# Altium schematic symbol library lib.SchLib: 480 symbols (part 4 of 6)
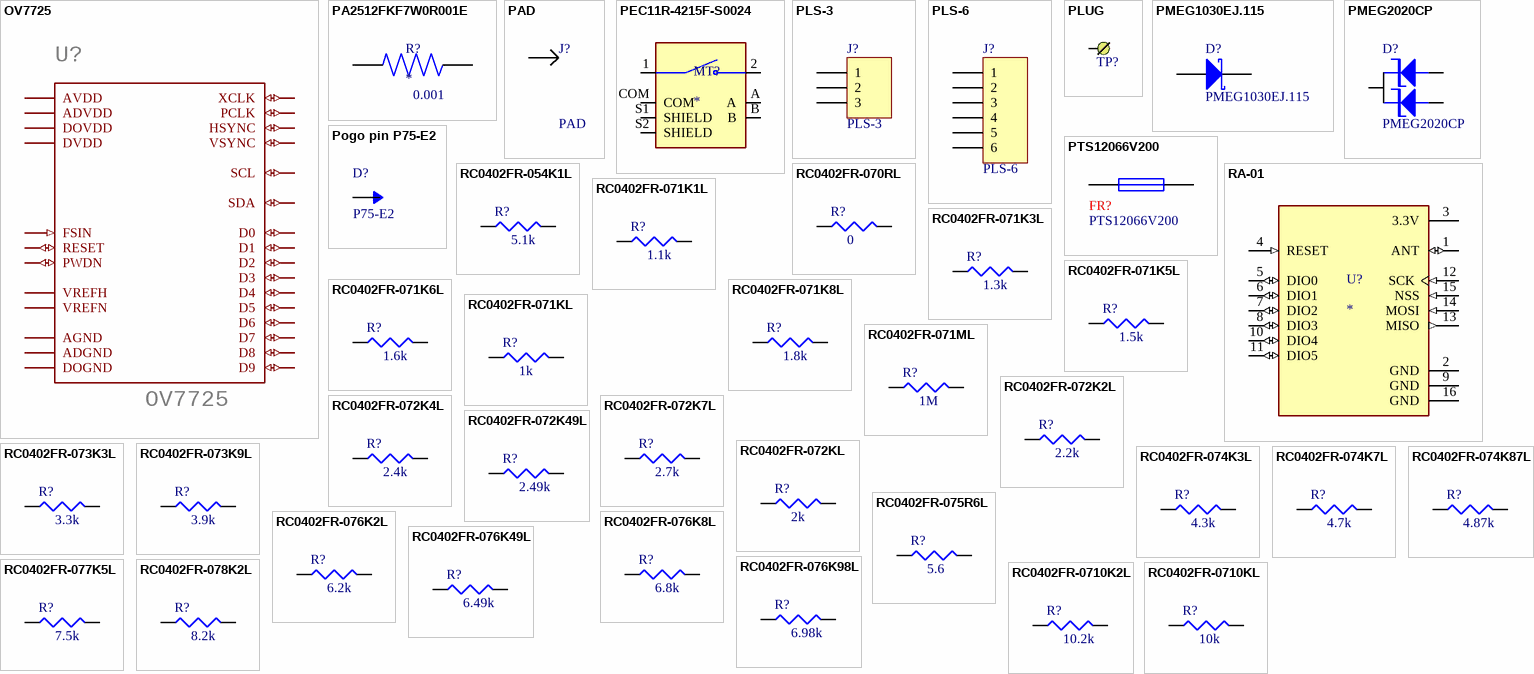
[diagram p23: symbols OV7725 to RC0402FR-0710KL]

## RC0402FR-074K7L
designator R?  value 4.7k  (hidden comment: RC0402FR-074K7L)
0.062Вт 0402 4.7 кОм, 1%, Чип резистор (SMD); MF: Yageo or NXP; ChipDip_Link: https://www.chipdip.ru/product0/9000189640; HelpURL: https://www.chipdip.ru/product0/9000189640; Package: RC0402; Type: SMD; MP: RC0402FR-074K7L; SnapEDA_Link: https://www.snapeda.com/parts/CRGCQ0402F10K/TE%20Connectivity/view-part/3186991/?ref=search&t=0402%2010k
footprint RESC1005X40N
pins: 1, 2

## RC0402FR-074K87L
designator R?  value 4.87k  (hidden comment: RC0402FR-074K87L)
0.062Вт 0402 4.87 кОм, 1%, Чип резистор (SMD); MF: Yageo or NXP; ChipDip_Link: https://www.chipdip.ru/product0/9000189640; HelpURL: https://www.chipdip.ru/product0/9000189640; Package: RC0402; Type: SMD; MP: RC0402FR-074K87L; SnapEDA_Link: https://www.snapeda.com/parts/CRGCQ0402F10K/TE%20Connectivity/view-part/3186991/?ref=search&t=0402%2010k
footprint RESC1005X40N
pins: 1, 2

## RC0402FR-075R6L
designator R?  value 5.6  (hidden comment: RC0402FR-075R6L)
0.062Вт 0402 5.6 Ом, 1%, Чип резистор (SMD); MF: Yageo or NXP; ChipDip_Link: https://www.chipdip.ru/product0/9000189640; HelpURL: https://www.chipdip.ru/product0/9000189640; Package: RC0402; Type: SMD; MP: RC0402FR-075R6L; SnapEDA_Link: https://www.snapeda.com/parts/CRGCQ0402F10K/TE%20Connectivity/view-part/3186991/?ref=search&t=0402%2010k
footprint RESC1005X40N
pins: 1, 2

## RC0402FR-076K2L
designator R?  value 6.2k  (hidden comment: RC0402FR-076K2L)
0.062Вт 0402 6.2 кОм, 1%, Чип резистор (SMD); MF: Yageo or NXP; ChipDip_Link: https://www.chipdip.ru/product0/9000189640; HelpURL: https://www.chipdip.ru/product0/9000189640; Package: RC0402; Type: SMD; MP: RC0402FR-076K2L; SnapEDA_Link: https://www.snapeda.com/parts/CRGCQ0402F10K/TE%20Connectivity/view-part/3186991/?ref=search&t=0402%2010k
footprint RESC1005X40N
pins: 1, 2

## RC0402FR-076K8L
designator R?  value 6.8k  (hidden comment: RC0402FR-076K8L)
0.062Вт 0402 6.8 кОм, 1%, Чип резистор (SMD); MF: Yageo or NXP; ChipDip_Link: https://www.chipdip.ru/product0/9000189640; HelpURL: https://www.chipdip.ru/product0/9000189640; Package: RC0402; Type: SMD; MP: RC0402FR-076K8L; SnapEDA_Link: https://www.snapeda.com/parts/CRGCQ0402F10K/TE%20Connectivity/view-part/3186991/?ref=search&t=0402%2010k
footprint RESC1005X40N
pins: 1, 2

## RC0402FR-076K49L
designator R?  value 6.49k  (hidden comment: RC0402FR-076K49L)
0.062Вт 0402 6.49 кОм, 1%, Чип резистор (SMD); MF: Yageo or NXP; ChipDip_Link: https://www.chipdip.ru/product0/9000189640; HelpURL: https://www.chipdip.ru/product0/9000189640; Package: RC0402; Type: SMD; MP: RC0402FR-076K49L; SnapEDA_Link: https://www.snapeda.com/parts/CRGCQ0402F10K/TE%20Connectivity/view-part/3186991/?ref=search&t=0402%2010k
footprint RESC1005X40N
pins: 1, 2

## RC0402FR-076K98L
designator R?  value 6.98k  (hidden comment: RC0402FR-076K98L)
0.062Вт 0402 6.98 кОм, 1%, Чип резистор (SMD); MF: Yageo or NXP; ChipDip_Link: https://www.chipdip.ru/product0/9000189640; HelpURL: https://nl.mouser.com/datasheet/2/447/PYu_RC_Group_51_RoHS_L_11-1984063.pdf; Package: RC0402; Type: SMD; MP: RC0402FR-076K98L; SnapEDA_Link: https://www.snapeda.com/parts/CRGCQ0402F10K/TE%20Connectivity/view-part/3186991/?ref=search&t=0402%2010k
footprint RESC1005X40N
pins: 1, 2

## RC0402FR-077K5L
designator R?  value 7.5k  (hidden comment: RC0402FR-077K5L)
0.062Вт 0402 7,5 кОм, 1%, Чип резистор (SMD); MF: Yageo or NXP; ChipDip_Link: https://www.chipdip.ru/product0/9000189640; HelpURL: https://www.chipdip.ru/product0/9000189640; Package: RC0402; Type: SMD; MP: RC0402FR-077K5L; SnapEDA_Link: https://www.snapeda.com/parts/CRGCQ0402F10K/TE%20Connectivity/view-part/3186991/?ref=search&t=0402%2010k
footprint RESC1005X40N
pins: 1, 2

## RC0402FR-078K2L
designator R?  value 8.2k  (hidden comment: RC0402FR-078K2L)
0.062Вт 0402 8.2 кОм, 1%, Чип резистор (SMD); MF: Yageo or NXP; ChipDip_Link: https://www.chipdip.ru/product0/9000189640; HelpURL: https://www.chipdip.ru/product0/9000189640; Package: RC0402; Type: SMD; MP: RC0402FR-078K2L; SnapEDA_Link: https://www.snapeda.com/parts/CRGCQ0402F10K/TE%20Connectivity/view-part/3186991/?ref=search&t=0402%2010k
footprint RESC1005X40N
pins: 1, 2

## RC0402FR-0710K2L
designator R?  value 10.2k  (hidden comment: RC0402FR-0710K2L)
0.062Вт 0402 10.2 кОм, 1%, Чип резистор (SMD); MF: Yageo or NXP; ChipDip_Link: https://www.chipdip.ru/product0/9000189640; HelpURL: https://nl.mouser.com/datasheet/2/447/PYu_RC_Group_51_RoHS_L_11-1984063.pdf; Package: RC0402; Type: SMD; MP: RC0402FR-0710K2L; SnapEDA_Link: https://www.snapeda.com/parts/CRGCQ0402F10K/TE%20Connectivity/view-part/3186991/?ref=search&t=0402%2010k
footprint RESC1005X40N
pins: 1, 2

## RC0402FR-0710KL
designator R?  value 10k  (hidden comment: RC0402FR-0710KL)
0.062Вт 0402 10 кОм, 1%, Чип резистор (SMD); MF: Yageo or NXP; ChipDip_Link: https://www.chipdip.ru/product0/9000189640; HelpURL: https://www.chipdip.ru/product0/9000189640; Package: RC0402; Type: SMD; MP: RC0402FR-0710KL; SnapEDA_Link: https://www.snapeda.com/parts/CRGCQ0402F10K/TE%20Connectivity/view-part/3186991/?ref=search&t=0402%2010k
footprint RESC1005X40N
pins: 1, 2

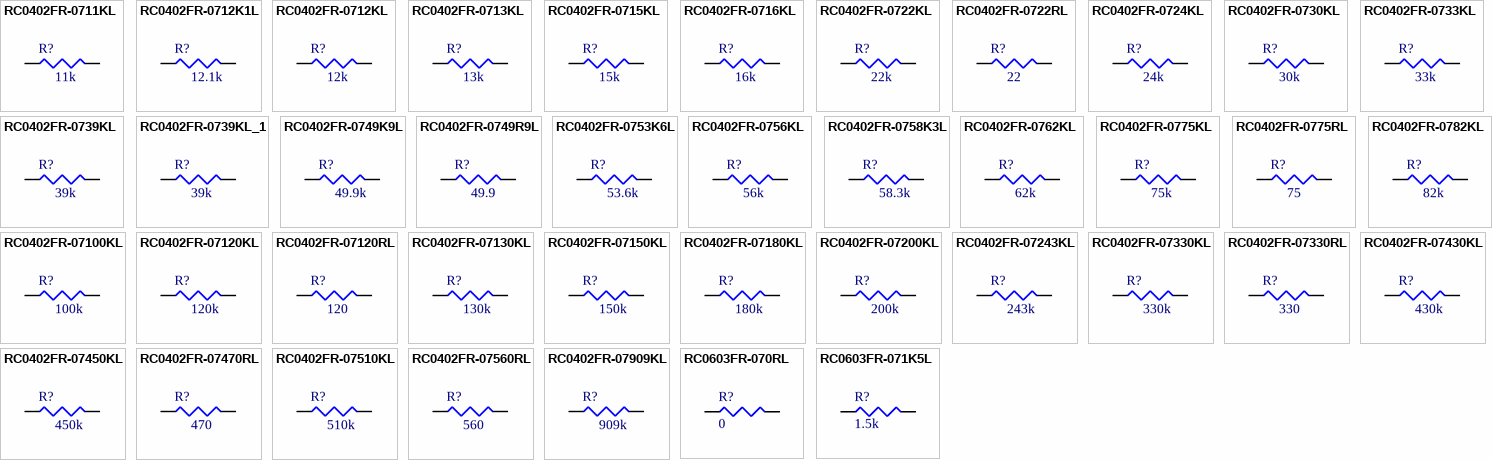
[diagram p11: symbols RC0402FR-0711KL to RC0603FR-071K5L]

## RC0402FR-0711KL
designator R?  value 11k  (hidden comment: RC0402FR-0711KL)
0.062Вт 0402 11 кОм, 1%, Чип резистор (SMD); MF: Yageo or NXP; ChipDip_Link: https://www.chipdip.ru/product0/9000189640; HelpURL: https://www.chipdip.ru/product0/9000189640; Package: RC0402; Type: SMD; MP: RC0402FR-0711KL; SnapEDA_Link: https://www.snapeda.com/parts/CRGCQ0402F10K/TE%20Connectivity/view-part/3186991/?ref=search&t=0402%2010k
footprint RESC1005X40N
pins: 1, 2

## RC0402FR-0712K1L
designator R?  value 12.1k  (hidden comment: RC0402FR-0712K1L)
0.062Вт 0402 12.1 кОм, 1%, Чип резистор (SMD); MF: Yageo or NXP; ChipDip_Link: https://www.chipdip.ru/product0/9000189640; HelpURL: https://nl.mouser.com/datasheet/2/447/PYu_RC_Group_51_RoHS_L_11-1984063.pdf; Package: RC0402; Type: SMD; MP: RC0402FR-0712K1L; SnapEDA_Link: https://www.snapeda.com/parts/CRGCQ0402F10K/TE%20Connectivity/view-part/3186991/?ref=search&t=0402%2010k
footprint RESC1005X40N
pins: 1, 2

## RC0402FR-0712KL
designator R?  value 12k  (hidden comment: RC0402FR-0712KL)
0.062Вт 0402 12 кОм, 1%, Чип резистор (SMD); MF: Yageo or NXP; ChipDip_Link: https://www.chipdip.ru/product0/9000189640; HelpURL: https://nl.mouser.com/datasheet/2/447/PYu_RC_Group_51_RoHS_L_11-1984063.pdf; Package: RC0402; Type: SMD; MP: RC0402FR-0712KL; SnapEDA_Link: https://www.snapeda.com/parts/CRGCQ0402F10K/TE%20Connectivity/view-part/3186991/?ref=search&t=0402%2010k
footprint RESC1005X40N
pins: 1, 2

## RC0402FR-0713KL
designator R?  value 13k  (hidden comment: RC0402FR-0713KL)
0.062Вт 0402 13 кОм, 1%, Чип резистор (SMD); MF: Yageo or NXP; ChipDip_Link: https://www.chipdip.ru/product0/9000189640; HelpURL: https://www.chipdip.ru/product0/9000189640; Package: RC0402; Type: SMD; MP: RC0402FR-0713KL; SnapEDA_Link: https://www.snapeda.com/parts/CRGCQ0402F10K/TE%20Connectivity/view-part/3186991/?ref=search&t=0402%2010k
footprint RESC1005X40N
pins: 1, 2

## RC0402FR-0715KL
designator R?  value 15k  (hidden comment: RC0402FR-0715KL)
0.062Вт 0402 15 кОм, 1%, Чип резистор (SMD); MF: Yageo or NXP; ChipDip_Link: https://www.chipdip.ru/product0/9000189640; HelpURL: https://www.chipdip.ru/product0/9000189640; Package: RC0402; Type: SMD; MP: RC0402FR-0715KL; SnapEDA_Link: https://www.snapeda.com/parts/CRGCQ0402F10K/TE%20Connectivity/view-part/3186991/?ref=search&t=0402%2010k
footprint RESC1005X40N
pins: 1, 2

## RC0402FR-0716KL
designator R?  value 16k  (hidden comment: RC0402FR-0716KL)
0.062Вт 0402 16 кОм, 1%, Чип резистор (SMD); MF: Yageo or NXP; ChipDip_Link: https://www.chipdip.ru/product0/9000189640; HelpURL: https://www.chipdip.ru/product0/9000189640; Package: RC0402; Type: SMD; MP: RC0402FR-0716KL; SnapEDA_Link: https://www.snapeda.com/parts/CRGCQ0402F10K/TE%20Connectivity/view-part/3186991/?ref=search&t=0402%2010k
footprint RESC1005X40N
pins: 1, 2

## RC0402FR-0722KL
designator R?  value 22k  (hidden comment: RC0402FR-0722KL)
0.062Вт 0402 22 кОм, 1%, Чип резистор (SMD); MF: Yageo or NXP; ChipDip_Link: https://www.chipdip.ru/product0/9000189640; HelpURL: https://www.chipdip.ru/product0/9000189640; Package: RC0402; Type: SMD; MP: RC0402FR-0722KL; SnapEDA_Link: https://www.snapeda.com/parts/CRGCQ0402F10K/TE%20Connectivity/view-part/3186991/?ref=search&t=0402%2010k
footprint RESC1005X40N
pins: 1, 2

## RC0402FR-0722RL
designator R?  value 22  (hidden comment: RC0402FR-0722RL)
0.062Вт 0402 22 Ом, 1%, Чип резистор (SMD); MF: Yageo or NXP; ChipDip_Link: https://www.chipdip.ru/product0/9000189640; HelpURL: https://www.chipdip.ru/product0/9000189640; Package: RC0402; Type: SMD; MP: RC0402FR-0722RL; SnapEDA_Link: https://www.snapeda.com/parts/CRGCQ0402F10K/TE%20Connectivity/view-part/3186991/?ref=search&t=0402%2010k
footprint RESC1005X40N
pins: 1, 2

## RC0402FR-0724KL
designator R?  value 24k  (hidden comment: RC0402FR-0724KL)
0.062Вт 0402 24 кОм, 1%, Чип резистор (SMD); MF: Yageo or NXP; ChipDip_Link: https://www.chipdip.ru/product0/9000189640; HelpURL: https://www.chipdip.ru/product0/9000189640; Package: RC0402; Type: SMD; MP: RC0402FR-0724KL; SnapEDA_Link: https://www.snapeda.com/parts/CRGCQ0402F10K/TE%20Connectivity/view-part/3186991/?ref=search&t=0402%2010k
footprint RESC1005X40N
pins: 1, 2

## RC0402FR-0730KL
designator R?  value 30k  (hidden comment: RC0402FR-0730KL)
0.062Вт 0402 30 кОм, 1%, Чип резистор (SMD); MF: Yageo or NXP; ChipDip_Link: https://www.chipdip.ru/product0/9000189640; HelpURL: https://www.chipdip.ru/product0/9000189640; Package: RC0402; Type: SMD; MP: RC0402FR-0730KL; SnapEDA_Link: https://www.snapeda.com/parts/CRGCQ0402F10K/TE%20Connectivity/view-part/3186991/?ref=search&t=0402%2010k
footprint RESC1005X40N
pins: 1, 2

## RC0402FR-0733KL
designator R?  value 33k  (hidden comment: RC0402FR-0733KL)
0.062Вт 0402 33 кОм, 1%, Чип резистор (SMD); MF: Yageo or NXP; ChipDip_Link: https://www.chipdip.ru/product0/9000189640; HelpURL: https://www.chipdip.ru/product0/9000189640; Package: RC0402; Type: SMD; MP: RC0402FR-0733KL; SnapEDA_Link: https://www.snapeda.com/parts/CRGCQ0402F10K/TE%20Connectivity/view-part/3186991/?ref=search&t=0402%2010k
footprint RESC1005X40N
pins: 1, 2

## RC0402FR-0739KL
designator R?  value 39k  (hidden comment: RC0402FR-0739KL)
0.062Вт 0402 39 кОм, 1%, Чип резистор (SMD); MF: Yageo or NXP; ChipDip_Link: https://www.chipdip.ru/product0/9000189640; HelpURL: https://www.chipdip.ru/product0/9000189640; Package: RC0402; Type: SMD; MP: RC0402FR-0739KL; SnapEDA_Link: https://www.snapeda.com/parts/CRGCQ0402F10K/TE%20Connectivity/view-part/3186991/?ref=search&t=0402%2010k
footprint RESC1005X40N
pins: 1, 2

## RC0402FR-0739KL_1
designator R?, comment value 39k  (hidden comment: RC0402FR-0739KL)
0.062Вт 0402 39 kОм, 1%, Чип резистор (SMD); MF: Yageo or NXP; ChipDip_Link: https://www.chipdip.ru/product0/9000189640; HelpURL: https://www.chipdip.ru/product0/9000189640; Package: RC0402; Type: SMD; MP: RC0402FR-0739KL; SnapEDA_Link: https://www.snapeda.com/parts/CRGCQ0402F10K/TE%20Connectivity/view-part/3186991/?ref=search&t=0402%2010k
footprint RESC1005X40N
pins: 1, 2

## RC0402FR-0749K9L
designator R?  value 49.9k  (hidden comment: RC0402FR-0749K9L)
0.062Вт 0402 49.9 кОм, 1%, Чип резистор (SMD); MF: Yageo or NXP; ChipDip_Link: https://www.chipdip.ru/product0/9000189640; HelpURL: https://nl.mouser.com/datasheet/2/447/PYu_RC_Group_51_RoHS_L_11-1984063.pdf; Package: RC0402; Type: SMD; MP: RC0402FR-0749K9L; SnapEDA_Link: https://www.snapeda.com/parts/CRGCQ0402F10K/TE%20Connectivity/view-part/3186991/?ref=search&t=0402%2010k
footprint RESC1005X40N
pins: 1, 2

## RC0402FR-0749R9L
designator R?  value 49.9  (hidden comment: RC0402FR-0749R9L)
0.062W 0402 49.9 Ohm, 1%,  (SMD); MF: Yageo or NXP; ChipDip_Link: https://www.chipdip.ru/product0/9000189640; HelpURL: https://nl.mouser.com/datasheet/2/447/PYu_RC_Group_51_RoHS_L_11-1984063.pdf; Package: RC0402; Type: SMD; MP: RC0402FR-0749R9L; SnapEDA_Link: https://www.snapeda.com/parts/CRGCQ0402F10K/TE%20Connectivity/view-part/3186991/?ref=search&t=0402%2010k
footprint RESC1005X40N
pins: 1, 2

## RC0402FR-0753K6L
designator R?  value 53.6k  (hidden comment: RC0402FR-0753K6L)
0.062Вт 0402 53.6 кОм, 1%, Чип резистор (SMD); MF: Yageo or NXP; ChipDip_Link: https://www.chipdip.ru/product0/9000189640; HelpURL: https://nl.mouser.com/datasheet/2/447/PYu_RC_Group_51_RoHS_L_11-1984063.pdf; Package: RC0402; Type: SMD; MP: RC0402FR-0753K6L; SnapEDA_Link: https://www.snapeda.com/parts/CRGCQ0402F10K/TE%20Connectivity/view-part/3186991/?ref=search&t=0402%2010k
footprint RESC1005X40N
pins: 1, 2

## RC0402FR-0756KL
designator R?  value 56k  (hidden comment: RC0402FR-0756KL)
0.062Вт 0402 56 кОм, 1%, Чип резистор (SMD); MF: Yageo or NXP; ChipDip_Link: https://www.chipdip.ru/product0/9000189640; HelpURL: https://www.chipdip.ru/product0/9000189640; Package: RC0402; Type: SMD; MP: RC0402FR-0756KL; SnapEDA_Link: https://www.snapeda.com/parts/CRGCQ0402F10K/TE%20Connectivity/view-part/3186991/?ref=search&t=0402%2010k
footprint RESC1005X40N
pins: 1, 2

## RC0402FR-0758K3L
designator R?  value 58.3k  (hidden comment: RC0402FR-0758K3L)
0.062W 0402 58.3 kOhm, 1%,  (SMD); MF: Yageo or NXP; ChipDip_Link: https://www.chipdip.ru/product0/9000189640; HelpURL: https://nl.mouser.com/datasheet/2/447/PYu_RC_Group_51_RoHS_L_11-1984063.pdf; Package: RC0402; Type: SMD; MP: RC0402FR-0758K3L; SnapEDA_Link: https://www.snapeda.com/parts/CRGCQ0402F10K/TE%20Connectivity/view-part/3186991/?ref=search&t=0402%2010k
footprint RESC1005X40N
pins: 1, 2

## RC0402FR-0762KL
designator R?  value 62k  (hidden comment: RC0402FR-0762KL)
0.062Вт 0402 62 кОм, 1%, Чип резистор (SMD); MF: Yageo or NXP; ChipDip_Link: https://www.chipdip.ru/product0/9000189640; HelpURL: https://www.chipdip.ru/product0/9000189640; Package: RC0402; Type: SMD; MP: RC0402FR-0762KL; SnapEDA_Link: https://www.snapeda.com/parts/CRGCQ0402F10K/TE%20Connectivity/view-part/3186991/?ref=search&t=0402%2010k
footprint RESC1005X40N
pins: 1, 2

## RC0402FR-0775KL
designator R?  value 75k  (hidden comment: RC0402FR-0775KL)
0.062Вт 0402 75 кОм, 1%, Чип резистор (SMD); MF: Yageo or NXP; ChipDip_Link: https://www.chipdip.ru/product0/9000189640; HelpURL: https://www.chipdip.ru/product0/9000189640; Package: RC0402; Type: SMD; MP: RC0402FR-0775KL; SnapEDA_Link: https://www.snapeda.com/parts/CRGCQ0402F10K/TE%20Connectivity/view-part/3186991/?ref=search&t=0402%2010k
footprint RESC1005X40N
pins: 1, 2

## RC0402FR-0775RL
designator R?  value 75  (hidden comment: RC0402FR-0775RL)
0.062Вт 0402 75 Ohm, 1%,  (SMD); MF: Yageo or NXP; ChipDip_Link: https://www.chipdip.ru/product0/9000189640; HelpURL: https://www.chipdip.ru/product0/9000189640; Package: RC0402; Type: SMD; MP: RC0402FR-0775RL; SnapEDA_Link: https://www.snapeda.com/parts/CRGCQ0402F10K/TE%20Connectivity/view-part/3186991/?ref=search&t=0402%2010k
footprint RESC1005X40N
pins: 1, 2

## RC0402FR-0782KL
designator R?  value 82k  (hidden comment: RC0402FR-0782KL)
0.062W 0402 82 kOhm, 1%,  (SMD); MF: Yageo or NXP; ChipDip_Link: https://www.chipdip.ru/product0/9000189640; HelpURL: https://www.chipdip.ru/product0/9000189640; Package: RC0402; Type: SMD; MP: RC0402FR-0782KL; SnapEDA_Link: https://www.snapeda.com/parts/CRGCQ0402F10K/TE%20Connectivity/view-part/3186991/?ref=search&t=0402%2010k
footprint RESC1005X40N
pins: 1, 2

## RC0402FR-07100KL
designator R?  value 100k  (hidden comment: RC0402FR-07100KL)
0.062Вт 0402 100 кОм, 1%, Чип резистор (SMD); MF: Yageo or NXP; ChipDip_Link: https://www.chipdip.ru/product0/9000189640; HelpURL: https://www.chipdip.ru/product0/9000189640; Package: RC0402; Type: SMD; MP: RC0402FR-07100KL; SnapEDA_Link: https://www.snapeda.com/parts/CRGCQ0402F10K/TE%20Connectivity/view-part/3186991/?ref=search&t=0402%2010k
footprint RESC1005X40N
pins: 1, 2

## RC0402FR-07120KL
designator R?  value 120k  (hidden comment: RC0402FR-07120KL)
0.062Вт 0402 120 кОм, 1%, Чип резистор (SMD); MF: Yageo or NXP; ChipDip_Link: https://www.chipdip.ru/product0/9000189640; HelpURL: https://www.chipdip.ru/product0/9000189640; Package: RC0402; Type: SMD; MP: RC0402FR-07120KL; SnapEDA_Link: https://www.snapeda.com/parts/CRGCQ0402F10K/TE%20Connectivity/view-part/3186991/?ref=search&t=0402%2010k
footprint RESC1005X40N
pins: 1, 2

## RC0402FR-07120RL
designator R?  value 120  (hidden comment: RC0402FR-07120RL)
0.062Вт 0402 120 Ом, 1%, Чип резистор (SMD); MF: Yageo or NXP; ChipDip_Link: https://www.chipdip.ru/product0/9000189640; HelpURL: https://www.chipdip.ru/product0/9000189640; Package: RC0402; Type: SMD; MP: RC0402FR-07120RL; SnapEDA_Link: https://www.snapeda.com/parts/CRGCQ0402F10K/TE%20Connectivity/view-part/3186991/?ref=search&t=0402%2010k
footprint RESC1005X40N
pins: 1, 2

## RC0402FR-07130KL
designator R?  value 130k  (hidden comment: RC0402FR-07130KL)
0.062Вт 0402 130 кОм, 1%, Чип резистор (SMD); MF: Yageo or NXP; ChipDip_Link: https://www.chipdip.ru/product0/9000189640; HelpURL: https://www.chipdip.ru/product0/9000189640; Package: RC0402; Type: SMD; MP: RC0402FR-07130KL; SnapEDA_Link: https://www.snapeda.com/parts/CRGCQ0402F10K/TE%20Connectivity/view-part/3186991/?ref=search&t=0402%2010k
footprint RESC1005X40N
pins: 1, 2

## RC0402FR-07150KL
designator R?  value 150k  (hidden comment: RC0402FR-07150KL)
0.062Вт 0402 150 кОм, 1%, Чип резистор (SMD); MF: Yageo or NXP; ChipDip_Link: https://www.chipdip.ru/product0/9000189640; HelpURL: https://www.chipdip.ru/product0/9000189640; Package: RC0402; Type: SMD; MP: RC0402FR-07150KL; SnapEDA_Link: https://www.snapeda.com/parts/CRGCQ0402F10K/TE%20Connectivity/view-part/3186991/?ref=search&t=0402%2010k
footprint RESC1005X40N
pins: 1, 2

## RC0402FR-07180KL
designator R?  value 180k  (hidden comment: RC0402FR-07180KL)
0.062Вт 0402 180 кОм, 1%, Чип резистор (SMD); MF: Yageo or NXP; ChipDip_Link: https://www.chipdip.ru/product0/9000189640; HelpURL: https://www.chipdip.ru/product0/9000189640; Package: RC0402; Type: SMD; MP: RC0402FR-07180KL; SnapEDA_Link: https://www.snapeda.com/parts/CRGCQ0402F10K/TE%20Connectivity/view-part/3186991/?ref=search&t=0402%2010k
footprint RESC1005X40N
pins: 1, 2

## RC0402FR-07200KL
designator R?  value 200k  (hidden comment: RC0402FR-07200KL)
0.062Вт 0402 200 кОм, 1%, Чип резистор (SMD); MF: Yageo or NXP; ChipDip_Link: https://www.chipdip.ru/product0/9000189640; HelpURL: https://www.chipdip.ru/product0/9000189640; Package: RC0402; Type: SMD; MP: RC0402FR-07200KL; SnapEDA_Link: https://www.snapeda.com/parts/CRGCQ0402F10K/TE%20Connectivity/view-part/3186991/?ref=search&t=0402%2010k
footprint RESC1005X40N
pins: 1, 2

## RC0402FR-07243KL
designator R?  value 243k  (hidden comment: RC0402FR-07243KL)
0.062Вт 0402 243 кОм, 1%, Чип резистор (SMD); MF: Yageo or NXP; ChipDip_Link: https://www.chipdip.ru/product0/9000189640; HelpURL: https://www.chipdip.ru/product0/9000189640; Package: RC0402; Type: SMD; MP: RC0402FR-07243KL; SnapEDA_Link: https://www.snapeda.com/parts/CRGCQ0402F10K/TE%20Connectivity/view-part/3186991/?ref=search&t=0402%2010k
footprint RESC1005X40N
pins: 1, 2

## RC0402FR-07330KL
designator R?  value 330k  (hidden comment: RC0402FR-07330KL)
0.062Вт 0402 330 кОм, 1%, Чип резистор (SMD); MF: Yageo or NXP; ChipDip_Link: https://www.chipdip.ru/product0/9000189640; HelpURL: https://www.chipdip.ru/product0/9000189640; Package: RC0402; Type: SMD; MP: RC0402FR-07330KL; SnapEDA_Link: https://www.snapeda.com/parts/CRGCQ0402F10K/TE%20Connectivity/view-part/3186991/?ref=search&t=0402%2010k
footprint RESC1005X40N
pins: 1, 2

## RC0402FR-07330RL
designator R?  value 330  (hidden comment: RC0402FR-07330RL)
0.062Вт 0402 330 Ом, 1%, Чип резистор (SMD); MF: Yageo or NXP; ChipDip_Link: https://www.chipdip.ru/product0/9000189640; HelpURL: https://www.chipdip.ru/product0/9000189640; Package: RC0402; Type: SMD; MP: RC0402FR-07330RL; SnapEDA_Link: https://www.snapeda.com/parts/CRGCQ0402F10K/TE%20Connectivity/view-part/3186991/?ref=search&t=0402%2010k
footprint RESC1005X40N
pins: 1, 2

## RC0402FR-07430KL
designator R?  value 430k  (hidden comment: RC0402FR-07430KL)
0.062Вт 0402 430 кОм, 1%, Чип резистор (SMD); MF: Yageo or NXP; ChipDip_Link: https://www.chipdip.ru/product0/9000189640; HelpURL: https://www.chipdip.ru/product0/9000189640; Package: RC0402; Type: SMD; MP: RC0402FR-07430KL; SnapEDA_Link: https://www.snapeda.com/parts/CRGCQ0402F10K/TE%20Connectivity/view-part/3186991/?ref=search&t=0402%2010k
footprint RESC1005X40N
pins: 1, 2

## RC0402FR-07450KL
designator R?  value 450k  (hidden comment: RC0402FR-07450KL)
0.062Вт 0402 450 кОм, 1%, Чип резистор (SMD); MF: Yageo or NXP; ChipDip_Link: https://www.chipdip.ru/product0/9000189640; HelpURL: https://www.chipdip.ru/product0/9000189640; Package: RC0402; Type: SMD; MP: RC0402FR-07450KL; SnapEDA_Link: https://www.snapeda.com/parts/CRGCQ0402F10K/TE%20Connectivity/view-part/3186991/?ref=search&t=0402%2010k
footprint RESC1005X40N
pins: 1, 2

## RC0402FR-07470RL
designator R?  value 470  (hidden comment: RC0402FR-07470RL)
0.062Вт 0402 470 Ом, 1%, Чип резистор (SMD); MF: Yageo or NXP; ChipDip_Link: https://www.chipdip.ru/product0/9000189640; HelpURL: https://www.chipdip.ru/product0/9000189640; Package: RC0402; Type: SMD; MP: RC0402FR-07470RL; SnapEDA_Link: https://www.snapeda.com/parts/CRGCQ0402F10K/TE%20Connectivity/view-part/3186991/?ref=search&t=0402%2010k
footprint RESC1005X40N
pins: 1, 2

## RC0402FR-07510KL
designator R?  value 510k  (hidden comment: RC0402FR-07510KL)
0.062Вт 0402 510 кОм, 1%, Чип резистор (SMD); MF: Yageo or NXP; ChipDip_Link: https://www.chipdip.ru/product0/9000189640; HelpURL: https://www.chipdip.ru/product0/9000189640; Package: RC0402; Type: SMD; MP: RC0402FR-07510KL; SnapEDA_Link: https://www.snapeda.com/parts/CRGCQ0402F10K/TE%20Connectivity/view-part/3186991/?ref=search&t=0402%2010k
footprint RESC1005X40N
pins: 1, 2

## RC0402FR-07560RL
designator R?  value 560  (hidden comment: RC0402FR-07560RL)
0.062Вт 0402 560 Ом, 1%, Чип резистор (SMD); MF: Yageo or NXP; ChipDip_Link: https://www.chipdip.ru/product0/9000189640; HelpURL: https://www.chipdip.ru/product0/9000189640; Package: RC0402; Type: SMD; MP: RC0402FR-07560RL; SnapEDA_Link: https://www.snapeda.com/parts/CRGCQ0402F10K/TE%20Connectivity/view-part/3186991/?ref=search&t=0402%2010k
footprint RESC1005X40N
pins: 1, 2

## RC0402FR-07909KL
designator R?  value 909k  (hidden comment: RC0402FR-07909KL)
0.062Вт 0402 909 кОм, 1%, Чип резистор (SMD); MF: Yageo or NXP; ChipDip_Link: https://www.chipdip.ru/product0/9000189640; HelpURL: https://www.chipdip.ru/product0/9000189640; Package: RC0402; Type: SMD; MP: RC0402FR-07909KL; SnapEDA_Link: https://www.snapeda.com/parts/CRGCQ0402F10K/TE%20Connectivity/view-part/3186991/?ref=search&t=0402%2010k
footprint RESC1005X40N
pins: 1, 2

## RC0603FR-070RL
designator R?  value 0  (hidden comment: RC0603FR-070RL)
0 Ohms ±1% 0.1W, 1/10W Chip Resistor 0603 (1608 Metric) Moisture Resistant Thick Film; MF: Yageo or NXP; HelpURL: https://www.yageo.com/upload/media/product/productsearch/datasheet/rchip/PYu-RC_Group_51_RoHS_L_10.pdf; MP: RC0603FR-070RL; Package: R0603; SnapEDA_Link: https://www.snapeda.com/parts/RC0603FR-101KL/Yageo/view-part/?ref=search&t=RC0603FR-07%201k; Type: SMD
footprint J1-0603 (Chip Resistor, Body 1.6x0.8mm, IPC High Density)
simulation model RESISTOR (Resistor)
signal-integrity model Res
pins: 1, 2

## RC0603FR-071K5L
designator R?  value 1.5k  (hidden comment: RC0603FR-071K5L)
1.5 kOhms ±1% 0.1W, 1/10W Chip Resistor 0603 (1608 Metric) Thick Film; MF: Yageo or NXP; MP: RC0603FR-071K5L; Package: R0603; SnapEDA_Link: https://www.snapeda.com/parts/RC0603FR-071K5L/Yageo/view-part/?ref=search&t=RC0603FR-07%201k; Type: SMD
footprint J1-0603 (Chip Resistor, Body 1.6x0.8mm, IPC High Density)
footprint 14-1210 (Chip Resistor, Body 3.2x2.5mm, IPC High Density)
footprint 12Z-2010 (Chip Resistor, Body 5.0x2.5mm, IPC High Density)
footprint RESC6332 (Chip Resistor, Body 6.3x3.2mm, IPC High Density)
simulation model RESISTOR (Resistor)
signal-integrity model Res
pins: 1, 2

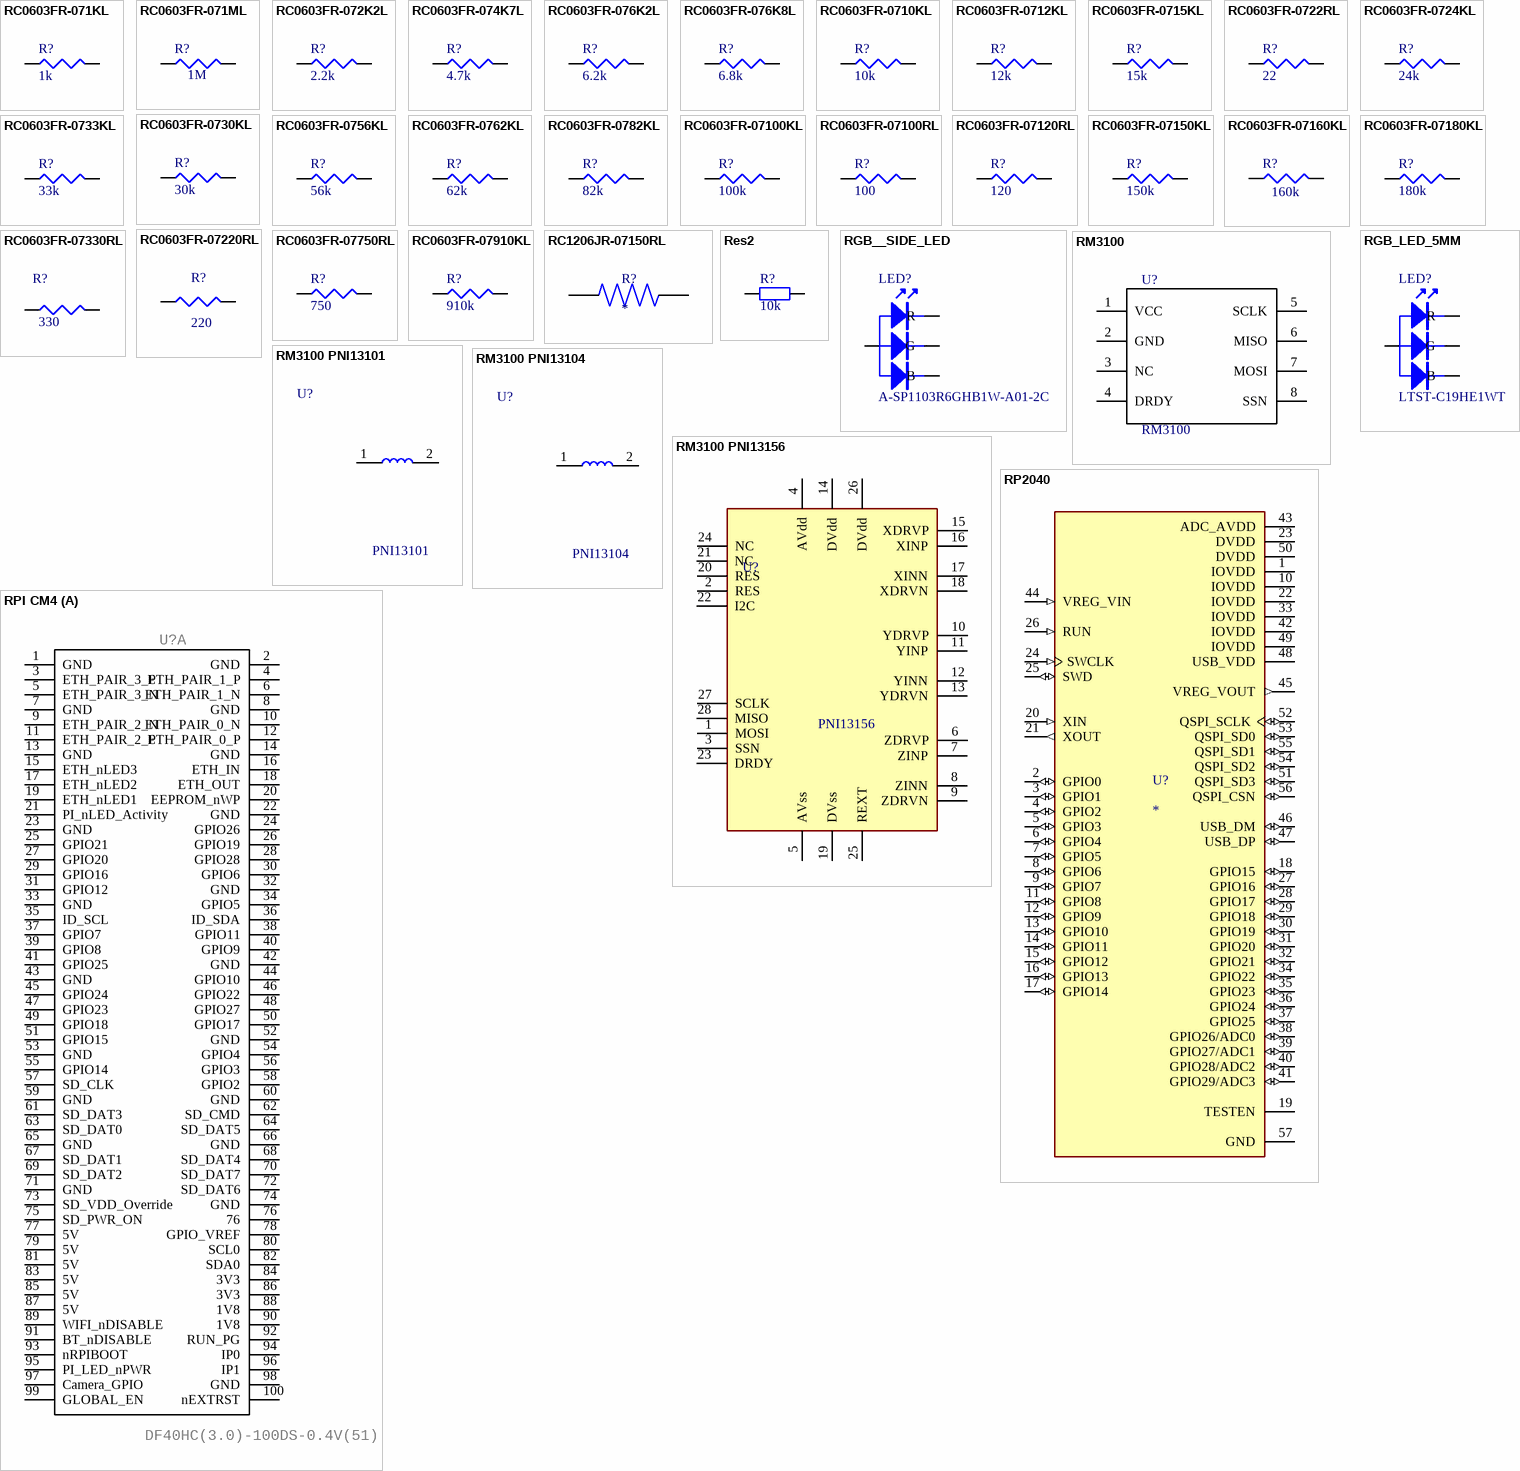
[diagram p12: symbols RC0603FR-071KL to RPI CM4]

## RC0603FR-071KL
designator R?  value 1k  (hidden comment: RC0603FR-071KL)
1 kOhms ±1% 0.1W, 1/10W Chip Resistor 0603 (1608 Metric) Moisture Resistant Thick Film; MF: Yageo or NXP; HelpURL: https://www.yageo.com/upload/media/product/productsearch/datasheet/rchip/PYu-RC_Group_51_RoHS_L_10.pdf; MP: RC0603FR-071KL; Package: R0603; SnapEDA_Link: https://www.snapeda.com/parts/RC0603FR-101KL/Yageo/view-part/?ref=search&t=RC0603FR-07%201k; Type: SMD
footprint J1-0603 (Chip Resistor, Body 1.6x0.8mm, IPC High Density)
simulation model RESISTOR (Resistor)
signal-integrity model Res
pins: 1, 2

## RC0603FR-071ML
designator R?  value 1M  (hidden comment: RC0603FR-071ML)
1 MOhms ±1% 0.1W, 1/10W Chip Resistor 0603 (1608 Metric) Moisture Resistant Thick Film; MF: Yageo or NXP; ChipDip_Link: https://www.chipdip.ru/product1/8001788866?from=suggest_product; HelpURL: https://www.yageo.com/upload/media/product/productsearch/datasheet/rchip/PYu-RC_Group_51_RoHS_L_10.pdf; Package: R0603; Type: SMD; MP: RC0603FR-071ML
footprint J1-0603 (Chip Resistor, Body 1.6x0.8mm, IPC High Density)
simulation model RESISTOR (Resistor)
signal-integrity model Res
pins: 1, 2

## RC0603FR-072K2L
designator R?  value 2.2k  (hidden comment: RC0603FR-072K2L)
2.2 kOhms ±1% 0.1W, 1/10W Chip Resistor 0603 (1608 Metric) Moisture Resistant Thick Film; MF: Yageo or NXP; ChipDip_Link: https://www.chipdip.ru/product1/8003477261?from=suggest_product; HelpURL: https://www.yageo.com/upload/media/product/productsearch/datasheet/rchip/PYu-RC_Group_51_RoHS_L_10.pdf; Package: R0603; Type: SMD; MP: RC0603FR-072K2L
footprint J1-0603 (Chip Resistor, Body 1.6x0.8mm, IPC High Density)
simulation model RESISTOR (Resistor)
signal-integrity model Res
pins: 1, 2

## RC0603FR-074K7L
designator R?  value 4.7k  (hidden comment: RC0603FR-074K7L)
4.7 kOhms ±1% 0.1W, 1/10W Chip Resistor 0603 (1608 Metric) Thick Film; MF: Yageo or NXP; ChipDip_Link: https://www.chipdip.ru/product0/9000079736; HelpURL: https://www.yageo.com/upload/media/product/productsearch/datasheet/rchip/PYu-RC_Group_51_RoHS_L_10.pdf; Package: R0603; Type: SMD; MP: RC0603FR-074K7L; SnapEDA_Link: https://www.snapeda.com/parts/RC0603FR-074K7L/Yageo/view-part/?ref=dk&t=RC0603FR-074K7L&con_ref=None
footprint J1-0603 (Chip Resistor, Body 1.6x0.8mm, IPC High Density)
simulation model RESISTOR (Resistor)
signal-integrity model Res
pins: 1, 2

## RC0603FR-076K2L
designator R?  value 6.2k  (hidden comment: RC0603FR-076K2L)
6.2 kOhms ±1% 0.1W, 1/10W Chip Resistor 0603 (1608 Metric) Moisture Resistant Thick Film; MF: Yageo or NXP; ChipDip_Link: https://www.chipdip.ru/product1/8003477261?from=suggest_product; HelpURL: https://www.yageo.com/upload/media/product/productsearch/datasheet/rchip/PYu-RC_Group_51_RoHS_L_10.pdf; Package: R0603; Type: SMD; MP: RC0603FR-076K2L
footprint J1-0603 (Chip Resistor, Body 1.6x0.8mm, IPC High Density)
simulation model RESISTOR (Resistor)
signal-integrity model Res
pins: 1, 2

## RC0603FR-076K8L
designator R?  value 6.8k  (hidden comment: RC0603FR-076K8L)
6.8 kOhms ±1% 0.1W, 1/10W Chip Resistor 0603 (1608 Metric) Moisture Resistant Thick Film; MF: Yageo or NXP; ChipDip_Link: https://www.chipdip.ru/product0/8002000764; HelpURL: https://www.yageo.com/upload/media/product/productsearch/datasheet/rchip/PYu-RC_Group_51_RoHS_L_10.pdf; Package: R0603; Type: SMD; MP: RC0603FR-076K8L
footprint J1-0603 (Chip Resistor, Body 1.6x0.8mm, IPC High Density)
simulation model RESISTOR (Resistor)
signal-integrity model Res
pins: 1, 2

## RC0603FR-0710KL
designator R?  value 10k  (hidden comment: RC0603FR-0710KL)
10 kOhms 1 0.1 W 1 10 W Chip Resistor 0603 1608 Metric Thick Film; MF: Yageo or NXP; ChipDip_Link: https://www.chipdip.ru/product0/9000079736; HelpURL: https://www.yageo.com/upload/media/product/productsearch/datasheet/rchip/PYu-RC_Group_51_RoHS_L_10.pdf; Package: R0603; Type: SMD; MP: RC0603FR-0710KL; SnapEDA_Link: https://www.snapeda.com/parts/RC0603FR-0710KL/Yageo/view-part/?ref=dk&t=RC0603FR-0710KL&con_ref=None
footprint J1-0603 (Chip Resistor, Body 1.6x0.8mm, IPC High Density)
simulation model RESISTOR (Resistor)
signal-integrity model Res
pins: 1, 2

## RC0603FR-0712KL
designator R?  value 12k  (hidden comment: RC0603FR-0712KL)
12 kOhms 1 0.1 W 1 10 W Chip Resistor 0603 1608 Metric Thick Film; MF: Yageo or NXP; ChipDip_Link: https://www.chipdip.ru/product0/9000079736; HelpURL: https://www.yageo.com/upload/media/product/productsearch/datasheet/rchip/PYu-RC_Group_51_RoHS_L_10.pdf; Package: R0603; Type: SMD; MP: RC0603FR-0712KL; SnapEDA_Link: https://www.snapeda.com/parts/RC0603FR-0710KL/Yageo/view-part/?ref=dk&t=RC0603FR-0710KL&con_ref=None
footprint J1-0603 (Chip Resistor, Body 1.6x0.8mm, IPC High Density)
simulation model RESISTOR (Resistor)
signal-integrity model Res
pins: 1, 2

## RC0603FR-0715KL
designator R?  value 15k  (hidden comment: RC0603FR-0715KL)
15 kOhms 1 0.1 W 1 10 W Chip Resistor 0603 1608 Metric Thick Film; MF: Yageo or NXP; ChipDip_Link: https://www.chipdip.ru/product0/9000079736; HelpURL: https://www.yageo.com/upload/media/product/productsearch/datasheet/rchip/PYu-RC_Group_51_RoHS_L_10.pdf; Package: R0603; Type: SMD; MP: RC0603FR-0715KL; SnapEDA_Link: https://www.snapeda.com/parts/RC0603FR-0710KL/Yageo/view-part/?ref=dk&t=RC0603FR-0710KL&con_ref=None
footprint J1-0603 (Chip Resistor, Body 1.6x0.8mm, IPC High Density)
simulation model RESISTOR (Resistor)
signal-integrity model Res
pins: 1, 2

## RC0603FR-0722RL
designator R?  value 22  (hidden comment: RC0603FR-0722RL)
22 Ohms ±1% 0.1W, 1/10W Chip Resistor 0603 (1608 Metric) Moisture Resistant Thick Film; MF: Yageo or NXP; MP: RC0603FR-0722RL; Package: R0603; SnapEDA_Link: https://www.snapeda.com/parts/RC0603FR-0722RL/Mepco%20Philips/view-part/?ref=search&t=RC0603FR-0722RL; Type: SMD
footprint J1-0603 (Chip Resistor, Body 1.6x0.8mm, IPC High Density)
footprint 14-1210 (Chip Resistor, Body 3.2x2.5mm, IPC High Density)
footprint 12Z-2010 (Chip Resistor, Body 5.0x2.5mm, IPC High Density)
footprint RESC6332 (Chip Resistor, Body 6.3x3.2mm, IPC High Density)
simulation model RESISTOR (Resistor)
signal-integrity model Res
pins: 1, 2

## RC0603FR-0724KL
designator R?  value 24k  (hidden comment: RC0603FR-0724KL)
24 kOhms ±1% 0.1W, 1/10W Chip Resistor 0603 (1608 Metric) Thick Film; MF: Yageo or NXP; ChipDip_Link: https://www.chipdip.ru/product0/9000079736; HelpURL: https://www.yageo.com/upload/media/product/productsearch/datasheet/rchip/PYu-RC_Group_51_RoHS_L_10.pdf; Package: R0603; Type: SMD; MP: RC0603FR-0724KL; SnapEDA_Link: https://www.snapeda.com/parts/RC0603FR-074K7L/Yageo/view-part/?ref=dk&t=RC0603FR-074K7L&con_ref=None
footprint J1-0603 (Chip Resistor, Body 1.6x0.8mm, IPC High Density)
simulation model RESISTOR (Resistor)
signal-integrity model Res
pins: 1, 2

## RC0603FR-0730KL
designator R?  value 30k  (hidden comment: RC0603FR-0730KL)
30 kOhms 1 0.1 W 1 10 W Chip Resistor 0603 1608 Metric Thick Film; MF: Yageo or NXP; ChipDip_Link: https://www.chipdip.ru/product0/9000079736; HelpURL: https://www.yageo.com/upload/media/product/productsearch/datasheet/rchip/PYu-RC_Group_51_RoHS_L_10.pdf; Package: R0603; Type: SMD; MP: RC0603FR-0730KL; SnapEDA_Link: https://www.snapeda.com/parts/RC0603FR-0710KL/Yageo/view-part/?ref=dk&t=RC0603FR-0710KL&con_ref=None
footprint J1-0603 (Chip Resistor, Body 1.6x0.8mm, IPC High Density)
simulation model RESISTOR (Resistor)
signal-integrity model Res
pins: 1, 2

## RC0603FR-0733KL
designator R?  value 33k  (hidden comment: RC0603FR-0733KL)
33 kOhms ±1% 0.1W, 1/10W Chip Resistor 0603 (1608 Metric) Moisture Resistant Thick Film; MF: Yageo or NXP; ChipDip_Link: https://www.chipdip.ru/product0/8001788943?from=suggest_product; HelpURL: https://www.yageo.com/upload/media/product/productsearch/datasheet/rchip/PYu-RC_Group_51_RoHS_L_10.pdf; Package: R0603; Type: SMD; MP: RC0603FR-0733KL
footprint J1-0603 (Chip Resistor, Body 1.6x0.8mm, IPC High Density)
simulation model RESISTOR (Resistor)
signal-integrity model Res
pins: 1, 2

## RC0603FR-0756KL
designator R?  value 56k  (hidden comment: RC0603FR-0756KL)
56 kOhms ±1% 0.1W, 1/10W Chip Resistor 0603 (1608 Metric) Moisture Resistant Thick Film; MF: Yageo or NXP; ChipDip_Link: https://www.chipdip.ru/product0/9000079754; HelpURL: https://www.yageo.com/upload/media/product/productsearch/datasheet/rchip/PYu-RC_Group_51_RoHS_L_10.pdf; Package: R0603; Type: SMD; MP: RC0603FR-0756KL
footprint J1-0603 (Chip Resistor, Body 1.6x0.8mm, IPC High Density)
simulation model RESISTOR (Resistor)
signal-integrity model Res
pins: 1, 2

## RC0603FR-0762KL
designator R?  value 62k  (hidden comment: RC0603FR-0762KL)
62 kOhms ±1% 0.1W, 1/10W Chip Resistor 0603 (1608 Metric) Moisture Resistant Thick Film; MF: Yageo or NXP; ChipDip_Link: https://www.chipdip.ru/product1/8001792354; HelpURL: https://www.yageo.com/upload/media/product/productsearch/datasheet/rchip/PYu-RC_Group_51_RoHS_L_10.pdf; Package: R0603; Type: SMD; MP: RC0603FR-0762KL
footprint J1-0603 (Chip Resistor, Body 1.6x0.8mm, IPC High Density)
simulation model RESISTOR (Resistor)
signal-integrity model Res
pins: 1, 2

## RC0603FR-0782KL
designator R?  value 82k  (hidden comment: RC0603FR-0782KL)
82 kOhms ±1% 0.1W, 1/10W Chip Resistor 0603 (1608 Metric) Moisture Resistant Thick Film; MF: Yageo or NXP; ChipDip_Link: https://www.chipdip.ru/product/rc0603fr-0782kl-1; HelpURL: https://www.yageo.com/upload/media/product/productsearch/datasheet/rchip/PYu-RC_Group_51_RoHS_L_10.pdf; Package: R0603; Type: SMD; MP: RC0603FR-0782KL
footprint J1-0603 (Chip Resistor, Body 1.6x0.8mm, IPC High Density)
simulation model RESISTOR (Resistor)
signal-integrity model Res
pins: 1, 2

## RC0603FR-07100KL
designator R?  value 100k  (hidden comment: RC0603FR-07100KL)
100 kOhms ±1% 0.1W, 1/10W Chip Resistor 0603 (1608 Metric) Moisture Resistant Thick Film; MF: Yageo or NXP; Package: R0603; Type: SMD; ChipDip_Link: https://www.chipdip.ru/product0/9000079760; HelpURL: https://www.yageo.com/upload/media/product/productsearch/datasheet/rchip/PYu-RC_Group_51_RoHS_L_10.pdf; MP: RC0603FR-07100KL
footprint J1-0603 (Chip Resistor, Body 1.6x0.8mm, IPC High Density)
simulation model RESISTOR (Resistor)
signal-integrity model Res
pins: 1, 2

## RC0603FR-07100RL
designator R?  value 100  (hidden comment: RC0603FR-07100RL)
100 Ohms ±1% 0.1W, 1/10W Chip Resistor 0603 (1608 Metric) Thick Film; MF: Yageo or NXP; MP: RC0603FR-07100RL; Package: R0603; SnapEDA_Link: https://www.snapeda.com/parts/RC0603FR-07100RL/Yageo/view-part/?ref=search&t=RC0603FR-07100RL; Type: SMD
footprint J1-0603 (Chip Resistor, Body 1.6x0.8mm, IPC High Density)
footprint 14-1210 (Chip Resistor, Body 3.2x2.5mm, IPC High Density)
footprint 12Z-2010 (Chip Resistor, Body 5.0x2.5mm, IPC High Density)
footprint RESC6332 (Chip Resistor, Body 6.3x3.2mm, IPC High Density)
simulation model RESISTOR (Resistor)
signal-integrity model Res
pins: 1, 2

## RC0603FR-07120RL
designator R?  value 120  (hidden comment: RC0603FR-07120RL)
120 Ohms 1 0.1 W 1 10 W Chip Resistor 0603 1608 Metric Thick Film; MF: Yageo or NXP; ChipDip_Link: https://www.chipdip.ru/product0/9000079618; HelpURL: https://www.chipdip.ru/product0/9000079618; Package: R0603; Type: SMD; MP: RC0603FR-07120RL; SnapEDA_Link: https://www.snapeda.com/parts/RC0603FR-07120RL/Yageo/view-part/?ref=search&t=RC0603FR-07120RL
footprint J1-0603 (Chip Resistor, Body 1.6x0.8mm, IPC High Density)
footprint 14-1210 (Chip Resistor, Body 3.2x2.5mm, IPC High Density)
footprint 12Z-2010 (Chip Resistor, Body 5.0x2.5mm, IPC High Density)
footprint RESC6332 (Chip Resistor, Body 6.3x3.2mm, IPC High Density)
simulation model RESISTOR (Resistor)
signal-integrity model Res
pins: 1, 2

## RC0603FR-07150KL
designator R?  value 150k  (hidden comment: RC0603FR-07150KL)
150 kOhms ±1% 0.1W, 1/10W Chip Resistor 0603 (1608 Metric) Moisture Resistant Thick Film; MF: Yageo or NXP; ChipDip_Link: https://www.chipdip.ru/product0/8001792331?from=suggest_product; HelpURL: https://www.yageo.com/upload/media/product/productsearch/datasheet/rchip/PYu-RC_Group_51_RoHS_L_10.pdf; Package: R0603; Type: SMD; MP: RC0603FR-07150KL
footprint J1-0603 (Chip Resistor, Body 1.6x0.8mm, IPC High Density)
simulation model RESISTOR (Resistor)
signal-integrity model Res
pins: 1, 2

## RC0603FR-07160KL
designator R?  value 160k  (hidden comment: RC0603FR-07160KL)
160 kOhms ±1% 0.1W, 1/10W Chip Resistor 0603 (1608 Metric) Moisture Resistant Thick Film; MF: Yageo or NXP; ChipDip_Link: https://www.chipdip.ru/product/rc0603fr-07160kl; HelpURL: https://www.yageo.com/upload/media/product/productsearch/datasheet/rchip/PYu-RC_Group_51_RoHS_L_10.pdf; Package: R0603; Type: SMD; MP: RC0603FR-07160KL
footprint J1-0603 (Chip Resistor, Body 1.6x0.8mm, IPC High Density)
simulation model RESISTOR (Resistor)
signal-integrity model Res
pins: 1, 2

## RC0603FR-07180KL
designator R?  value 180k  (hidden comment: RC0603FR-07180KL)
180 kOhms ±1% 0.1W, 1/10W Chip Resistor 0603 (1608 Metric) Moisture Resistant Thick Film; MF: Yageo or NXP; Package: R0603; Type: SMD; HelpURL: https://www.yageo.com/upload/media/product/productsearch/datasheet/rchip/PYu-RC_Group_51_RoHS_L_10.pdf; MP: RC0603FR-07180KL
footprint J1-0603 (Chip Resistor, Body 1.6x0.8mm, IPC High Density)
simulation model RESISTOR (Resistor)
signal-integrity model Res
pins: 1, 2

## RC0603FR-07220RL
designator R?  value 220  (hidden comment: RC0603FR-07220RL)
220 Ohms ±1% 0.1W, 1/10W Chip Resistor 0603 (1608 Metric) Thick Film; MF: Yageo or NXP; Type: SMD; HelpURL: https://www.yageo.com/upload/media/product/productsearch/datasheet/rchip/PYu-RC_Group_51_RoHS_L_10.pdf; MP: RC0603FR-07220RL; Package: R0603
footprint J1-0603 (Chip Resistor, Body 1.6x0.8mm, IPC High Density)
simulation model RESISTOR (Resistor)
signal-integrity model Res
pins: 1, 2

## RC0603FR-07330RL
designator R?  value 330  (hidden comment: RC0603FR-07330RL)
330 Ohms ±1% 0.1W, 1/10W Chip Resistor 0603 (1608 Metric) Thick Film; MF: Yageo or NXP; ChipDip_Link: https://www.chipdip.ru/product0/9000079628; HelpURL: https://www.yageo.com/upload/media/product/productsearch/datasheet/rchip/PYu-RC_Group_51_RoHS_L_10.pdf; Package: R0603; Type: SMD; MP: RC0603FR-07330RL; SnapEDA_Link: https://www.snapeda.com/parts/RC0603FR-07330RL/Yageo/view-part/?ref=search&t=RC0603FR-07330RL
footprint J1-0603 (Chip Resistor, Body 1.6x0.8mm, IPC High Density)
simulation model RESISTOR (Resistor)
signal-integrity model Res
pins: 1, 2

## RC0603FR-07750RL
designator R?  value 750  (hidden comment: RC0603FR-07750RL)
750 Ohms ±1% 0.1W, 1/10W Chip Resistor 0603 (1608 Metric) Thick Film; MF: Yageo or NXP; ChipDip_Link: https://www.chipdip.ru/product0/9000079736; HelpURL: https://www.yageo.com/upload/media/product/productsearch/datasheet/rchip/PYu-RC_Group_51_RoHS_L_10.pdf; Package: R0603; Type: SMD; MP: RC0603FR-07750RL; SnapEDA_Link: https://www.snapeda.com/parts/RC0603FR-074K7L/Yageo/view-part/?ref=dk&t=RC0603FR-074K7L&con_ref=None
footprint J1-0603 (Chip Resistor, Body 1.6x0.8mm, IPC High Density)
simulation model RESISTOR (Resistor)
signal-integrity model Res
pins: 1, 2

## RC0603FR-07910KL
designator R?  value 910k  (hidden comment: RC0603FR-07910KL)
910 kOhms ±1% 0.1W, 1/10W Chip Resistor 0603 (1608 Metric) Moisture Resistant Thick Film; MF: Yageo or NXP; Package: R0603; Type: SMD; HelpURL: https://www.yageo.com/upload/media/product/productsearch/datasheet/rchip/PYu-RC_Group_51_RoHS_L_10.pdf; MP: RC0603FR-07910KL
footprint J1-0603 (Chip Resistor, Body 1.6x0.8mm, IPC High Density)
simulation model RESISTOR (Resistor)
signal-integrity model Res
pins: 1, 2

## RC1206JR-07150RL
designator R?
150 Ohms Â±5% 0.25W, 1/4W Chip Resistor 1206 _3216 Metric_ Moisture Resistant Thick Film; Value: 150; MP: RC1206JR-07150RL; MF: Yageo; Package: 3116 Yageo; SnapEDA_Link: https://www.snapeda.com/parts/RC1206JR-07150RL/Yageo/view-part/106123/?ref=snap; ChipDip_Link: https://www.chipdip.ru/product0/535355693
footprint RESC3116X65N
pins: 1, 2

## Res2
designator R?  value 10k  (hidden comment: Res2)
Resistor
footprint AXIAL-0.4 (Axial Device, Thru-Hole; 2 Leads; 0.4 in Pin Spacing)
simulation model RESISTOR (Resistor)
signal-integrity model Res
footprint 0603
footprint 0402
pins: 1, 2

## RGB__SIDE_LED
designator LED?, comment A-SP1103R6GHB1W-A01-2C
Blue/Green/Red; MF: Amicc; HelpURL: https://www.lcsc.com/datasheet/lcsc_datasheet_2410121532_Amicc-A-SP1103R6GHB1W-A01-2C_C19171234.pdf; MP: A-SP1103R6GHB1W-A01-2C
footprint A-SP1103R6GHB1W-A01-2C
pins: 1 A, 2 B, 3 G, 4 R

## RGB_LED_5MM
designator LED?, comment LTST-C19HE1WT
Blue/Green/Red; ChipDip_Link: https://www.chipdip.ru/product1/8003387462; HelpURL: https://static.chipdip.ru/lib/039/DOC013039662.pdf; MP: LTST-C19HE1WT
footprint LTST-C19HE1WT
pins: 1 R, 2 G, 3 B, 4 A

## RM3100
designator U?
Instructions: Do not install; MP: RM3100; Value: *; Type: SMD
footprint RM3100
pins: 1 VCC (power), 2 GND (power), 3 NC (power), 4 DRDY (power), 5 SCLK (power), 6 MISO (power), 7 MOSI (power), 8 SSN (power)

## RM3100 PNI13101
designator U?, comment PNI13101
RM3100 Sen-Z-f PNI13101 13101; MP: 13101; MF: PNI; Value: *; HelpURL: https://www.pnicorp.com/wp-content/uploads/RM3100-Sensor-Suite-User-Manual-R07-1.pdf; Type: SMD
footprint PNI13101
pins: 1 (power), 2 (power)

## RM3100 PNI13104
designator U?, comment PNI13104
RM3100 Sen-XY-f PNI13104 13104; MP: 13104; MF: PNI; Value: *; HelpURL: https://www.pnicorp.com/wp-content/uploads/RM3100-Sensor-Suite-User-Manual-R07-1.pdf; Type: SMD
footprint PNI13104
pins: 1 (power), 2 (power)

## RM3100 PNI13156
designator U?, comment PNI13156
RM3100 IC PNI13156 13156; MP: 13156; MF: PNI; Value: *; HelpURL: https://www.pnicorp.com/wp-content/uploads/RM3100-Sensor-Suite-User-Manual-R07-1.pdf; Type: SMD
footprint PNI13156
pins: 1 MOSI (power), 2 RES (power), 3 SSN (power), 4 AVdd (power), 5 AVss (power), 6 ZDRVP (power), 7 ZINP (power), 8 ZINN (power), 9 ZDRVN (power), 10 YDRVP (power), 11 YINP (power), 12 YINN (power), 13 YDRVN (power), 14 DVdd (power), 15 XDRVP (power), 16 XINP (power), 17 XINN (power), 18 XDRVN (power), 19 DVss (power), 20 RES (power), 21 NC (power), 22 I2C (power), 23 DRDY (power), 24 NC (power), 25 REXT (power), 26 DVdd (power), 27 SCLK (power), 28 MISO (power)

## RP2040
designator U?
MP: RP2040; Value: *; Availability: Unavailable; Price: None; Package: None
footprint QFN40P700X700X90-57N
pins: 1 IOVDD (power), 2 GPIO0 (io), 3 GPIO1 (io), 4 GPIO2 (io), 5 GPIO3 (io), 6 GPIO4 (io), 7 GPIO5 (io), 8 GPIO6 (io), 9 GPIO7 (io), 10 IOVDD (power), 11 GPIO8 (io), 12 GPIO9 (io), 13 GPIO10 (io), 14 GPIO11 (io), 15 GPIO12 (io), 16 GPIO13 (io), 17 GPIO14 (io), 18 GPIO15 (io), 19 TESTEN, 20 XIN (in), 21 XOUT (out), 22 IOVDD (power), 23 DVDD (power), 24 SWCLK (in), 25 SWD (io), 26 RUN (in), 27 GPIO16 (io), 28 GPIO17 (io), 29 GPIO18 (io), 30 GPIO19 (io), 31 GPIO20 (io), 32 GPIO21 (io), 33 IOVDD (power), 34 GPIO22 (io), 35 GPIO23 (io), 36 GPIO24 (io), 37 GPIO25 (io), 38 GPIO26/ADC0 (io), 39 GPIO27/ADC1 (io), 40 GPIO28/ADC2 (io), 41 GPIO29/ADC3 (io), 42 IOVDD (power), 43 ADC_AVDD (power), 44 VREG_VIN (in), 45 VREG_VOUT (out), 46 USB_DM (io), 47 USB_DP (io), 48 USB_VDD (power), 49 IOVDD (power), 50 DVDD (power), 51 QSPI_SD3 (io), 52 QSPI_SCLK (io), 53 QSPI_SD0 (io), 54 QSPI_SD2 (io), 55 QSPI_SD1 (io), 56 QSPI_CSN (io), 57 GND (power)

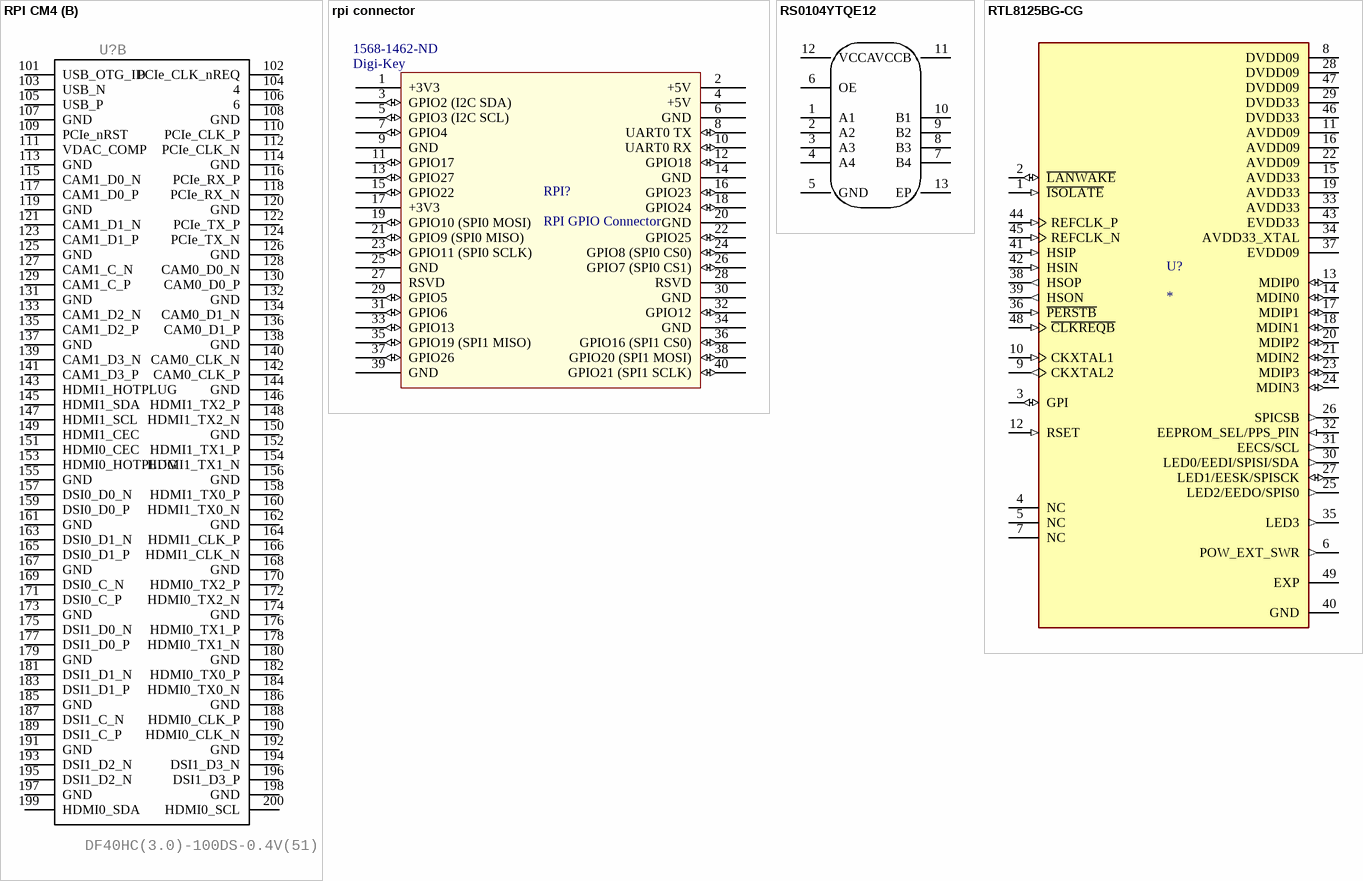
[diagram p13: symbols RPI CM4 to RTL8125BG-CG]

## RPI CM4
designator U?, comment DF40HC(3.0)-100DS-0.4V(51)
DF40 Series 100 Position Dual Row 0.4 mm Pitch Surface Mount Vertical Receptacle; GateName_1: G$1; SymbolName_1: DF40C-100DS-0.4V(51); MF: Hirose; LibraryName: qualified_1; DeviceSetName: DF40C-100DS-0.4V(51); DIGI-KEY_PART_NUMBER: H11615CT-ND; DIGI-KEY_PURCHASE_URL: https://www.digikey.ca/product-detail/en/hirose-electric-co-ltd/DF40C-100DS-0.4V_51_/H11615CT-ND/1969495?utm_source=snapeda&utm_medium=aggregator&utm_campaign=symbol; MP: DF40HC(3.0)-100DS-0.4V(51); PACKAGE: None
footprint CM4 (Raspberry pi CM4)
part A pins: 1 GND, 2 GND, 3 ETH_PAIR_3_P, 4 ETH_PAIR_1_P, 5 ETH_PAIR_3_N, 6 ETH_PAIR_1_N, 7 GND, 8 GND, 9 ETH_PAIR_2_N, 10 ETH_PAIR_0_N, 11 ETH_PAIR_2_P, 12 ETH_PAIR_0_P, 13 GND, 14 GND, 15 ETH_nLED3, 16 ETH_IN, 17 ETH_nLED2, 18 ETH_OUT, 19 ETH_nLED1, 20 EEPROM_nWP, 21 PI_nLED_Activity, 22 GND, 23 GND, 24 GPIO26, 25 GPIO21, 26 GPIO19, 27 GPIO20, 28 GPIO28, 29 GPIO16, 30 GPIO6, 31 GPIO12, 32 GND, 33 GND, 34 GPIO5, 35 ID_SCL, 36 ID_SDA, 37 GPIO7, 38 GPIO11, 39 GPIO8, 40 GPIO9, 41 GPIO25, 42 GND, 43 GND, 44 GPIO10, 45 GPIO24, 46 GPIO22, 47 GPIO23, 48 GPIO27, 49 GPIO18, 50 GPIO17, 51 GPIO15, 52 GND, 53 GND, 54 GPIO4, 55 GPIO14, 56 GPIO3, 57 SD_CLK, 58 GPIO2, 59 GND, 60 GND, 61 SD_DAT3, 62 SD_CMD, 63 SD_DAT0, 64 SD_DAT5, 65 GND, 66 GND, 67 SD_DAT1, 68 SD_DAT4, 69 SD_DAT2, 70 SD_DAT7, 71 GND, 72 SD_DAT6, 73 SD_VDD_Override, 74 GND, 75 SD_PWR_ON, 76, 77 5V, 78 GPIO_VREF, 79 5V, 80 SCL0, 81 5V, 82 SDA0, 83 5V, 84 3V3, 85 5V, 86 3V3, 87 5V, 88 1V8, 89 WIFI_nDISABLE, 90 1V8, 91 BT_nDISABLE, 92 RUN_PG, 93 nRPIBOOT, 94 IP0, 95 PI_LED_nPWR, 96 IP1, 97 Camera_GPIO, 98 GND, 99 GLOBAL_EN, 100 nEXTRST
part B pins: 101 USB_OTG_ID, 102 PCIe_CLK_nREQ, 103 USB_N, 104 4, 105 USB_P, 106 6, 107 GND, 108 GND, 109 PCIe_nRST, 110 PCIe_CLK_P, 111 VDAC_COMP, 112 PCIe_CLK_N, 113 GND, 114 GND, 115 CAM1_D0_N, 116 PCIe_RX_P, 117 CAM1_D0_P, 118 PCIe_RX_N, 119 GND, 120 GND, 121 CAM1_D1_N, 122 PCIe_TX_P, 123 CAM1_D1_P, 124 PCIe_TX_N, 125 GND, 126 GND, 127 CAM1_C_N, 128 CAM0_D0_N, 129 CAM1_C_P, 130 CAM0_D0_P, 131 GND, 132 GND, 133 CAM1_D2_N, 134 CAM0_D1_N, 135 CAM1_D2_P, 136 CAM0_D1_P, 137 GND, 138 GND, 139 CAM1_D3_N, 140 CAM0_CLK_N, 141 CAM1_D3_P, 142 CAM0_CLK_P, 143 HDMI1_HOTPLUG, 144 GND, 145 HDMI1_SDA, 146 HDMI1_TX2_P, 147 HDMI1_SCL, 148 HDMI1_TX2_N, 149 HDMI1_CEC, 150 GND, 151 HDMI0_CEC, 152 HDMI1_TX1_P, 153 HDMI0_HOTPLUG, 154 HDMI1_TX1_N, 155 GND, 156 GND, 157 DSI0_D0_N, 158 HDMI1_TX0_P, 159 DSI0_D0_P, 160 HDMI1_TX0_N, 161 GND, 162 GND, 163 DSI0_D1_N, 164 HDMI1_CLK_P, 165 DSI0_D1_P, 166 HDMI1_CLK_N, 167 GND, 168 GND, 169 DSI0_C_N, 170 HDMI0_TX2_P, 171 DSI0_C_P, 172 HDMI0_TX2_N, 173 GND, 174 GND, 175 DSI1_D0_N, 176 HDMI0_TX1_P, 177 DSI1_D0_P, 178 HDMI0_TX1_N, 179 GND, 180 GND, 181 DSI1_D1_N, 182 HDMI0_TX0_P, 183 DSI1_D1_P, 184 HDMI0_TX0_N, 185 GND, 186 GND, 187 DSI1_C_N, 188 HDMI0_CLK_P, 189 DSI1_C_P, 190 HDMI0_CLK_N, 191 GND, 192 GND, 193 DSI1_D2_N, 194 DSI1_D3_N, 195 DSI1_D2_N, 196 DSI1_D3_P, 197 GND, 198 GND, 199 HDMI0_SDA, 200 HDMI0_SCL

## rpi connector
designator RPI?, comment RPI GPIO Connector  Supplier 1: Digi-Key  Supplier Part Number 1: 1568-1462-ND
GPIO Header for Raspberry Pi A+/B+/Pi 2/Pi 3 - 2x20; Manufacturer: SparkFun Electronics; Manufacturer Part Number: PRT-14017; Nils Minor: author; nilsminor@web.de: mail; RoHS: RoHS Compliant; Category: Development Boards, Kits, Programmers; Stock 1: 150; Pricing 1: 1=1.84 (EUR); Part Status: Active; Accessory Type: Connector; For Use With/Related Products: Raspberry Pi; ComponentLink1URL: https://cdn.sparkfun.com/datasheets/Dev/RaspberryPi/12313.pdf; ComponentLink1Description: https://cdn.sparkfun.com/datasheets/Dev/RaspberryPi/12313.pdf
footprint rpi
pins: 1 +3V3 (power), 2 +5V (power), 3 GPIO2 (I2C SDA) (io), 4 +5V (power), 5 GPIO3 (I2C SCL) (io), 6 GND (power), 7 GPIO4 (io), 8 UART0 TX (io), 9 GND (power), 10 UART0 RX (io), 11 GPIO17 (io), 12 GPIO18 (io), 13 GPIO27 (io), 14 GND (power), 15 GPIO22 (io), 16 GPIO23 (io), 17 +3V3 (power), 18 GPIO24 (io), 19 GPIO10 (SPI0 MOSI) (io), 20 GND (power), 21 GPIO9 (SPI0 MISO) (io), 22 GPIO25 (io), 23 GPIO11 (SPI0 SCLK) (io), 24 GPIO8 (SPI0 CS0) (io), 25 GND (power), 26 GPIO7 (SPI0 CS1) (io), 27 RSVD, 28 RSVD, 29 GPIO5 (io), 30 GND (power), 31 GPIO6 (io), 32 GPIO12 (io), 33 GPIO13 (io), 34 GND, 35 GPIO19 (SPI1 MISO) (io), 36 GPIO16 (SPI1 CS0) (io), 37 GPIO26 (io), 38 GPIO20 (SPI1 MOSI) (io), 39 GND (power), 40 GPIO21 (SPI1 SCLK) (io)

## RS0104YTQE12
designator U??  (value not drawn)
4-Bit Bidirectional Voltage-Level Translator for OpenDrain and Push-Pull; Pacage: QFN-12L(2x2); MF: RUNIC(润石); Add into BOM: yes; LCSC Part Name: RS0104YTQE12; Supplier Part: C3515913; MP: RS0104YTQE12; Supplier Footprint: QFN-12L(2x2); JLCPCB Part Class: Extended Part; HelpURL: https://atta.szlcsc.com/upload/public/pdf/source/20230314/F3039FD895D3EBC408D1D722C8359295.pdf; Supplier: LCSC; Convert to PCB: yes
footprint QFN-12_L2.0-W2.0-P0.40-BL-EP1.0
pins: 1 A1, 2 A2, 3 A3, 4 A4, 5 GND, 6 OE, 7 B4, 8 B3, 9 B2, 10 B1, 11 VCCB, 12 VCCA, 13 EP

## RTL8125BG-CG
designator U?
INTEGRATED 10/100/1000M/2.5G ETHERNET CONTROLLER; MF: Realtek Semiconductor Corp; MP: RTL8125BG-CG; SnapEDA_Link: https://www.snapeda.com/parts/RTL8125BG-CG/Realtek/view-part/?ref=snap; Package: TQFN-48-EP(6x6); Value: *; Check_prices: https://www.snapeda.com/parts/RTL8125BG-CG/Realtek/view-part/?ref=eda; HelpURL: https://file.elecfans.com/web2/M00/44/D8/poYBAGKHVriAHnfWADAT6T6hjVk715.pdf
footprint QFN40P600X600X100-49N
pins: 1 ~{ISOLATE} (in), 2 ~{LANWAKE} (io), 3 GPI (io), 4 NC, 5 NC, 6 POW_EXT_SWR (out), 7 NC, 8 DVDD09 (power), 9 CKXTAL2 (out), 10 CKXTAL1 (in), 11 AVDD09 (power), 12 RSET (in), 13 MDIP0 (io), 14 MDIN0 (io), 15 AVDD33 (power), 16 AVDD09 (power), 17 MDIP1 (io), 18 MDIN1 (io), 19 AVDD33 (power), 20 MDIP2 (io), 21 MDIN2 (io), 22 AVDD09 (power), 23 MDIP3 (io), 24 MDIN3 (io), 25 LED2/EEDO/SPIS0 (out), 26 SPICSB (out), 27 LED1/EESK/SPISCK (io), 28 DVDD09 (power), 29 DVDD33 (power), 30 LED0/EEDI/SPISI/SDA (out), 31 EECS/SCL (out), 32 EEPROM_SEL/PPS_PIN (in), 33 AVDD33 (power), 34 AVDD33_XTAL (power), 35 LED3 (out), 36 ~{PERSTB} (in), 37 EVDD09 (power), 38 HSOP (out), 39 HSON (out), 40 GND (power), 41 HSIP (in), 42 HSIN (in), 43 EVDD33 (power), 44 REFCLK_P (in), 45 REFCLK_N (in), 46 DVDD33 (power), 47 DVDD09 (power), 48 ~{CLKREQB} (in), 49 EXP (power)

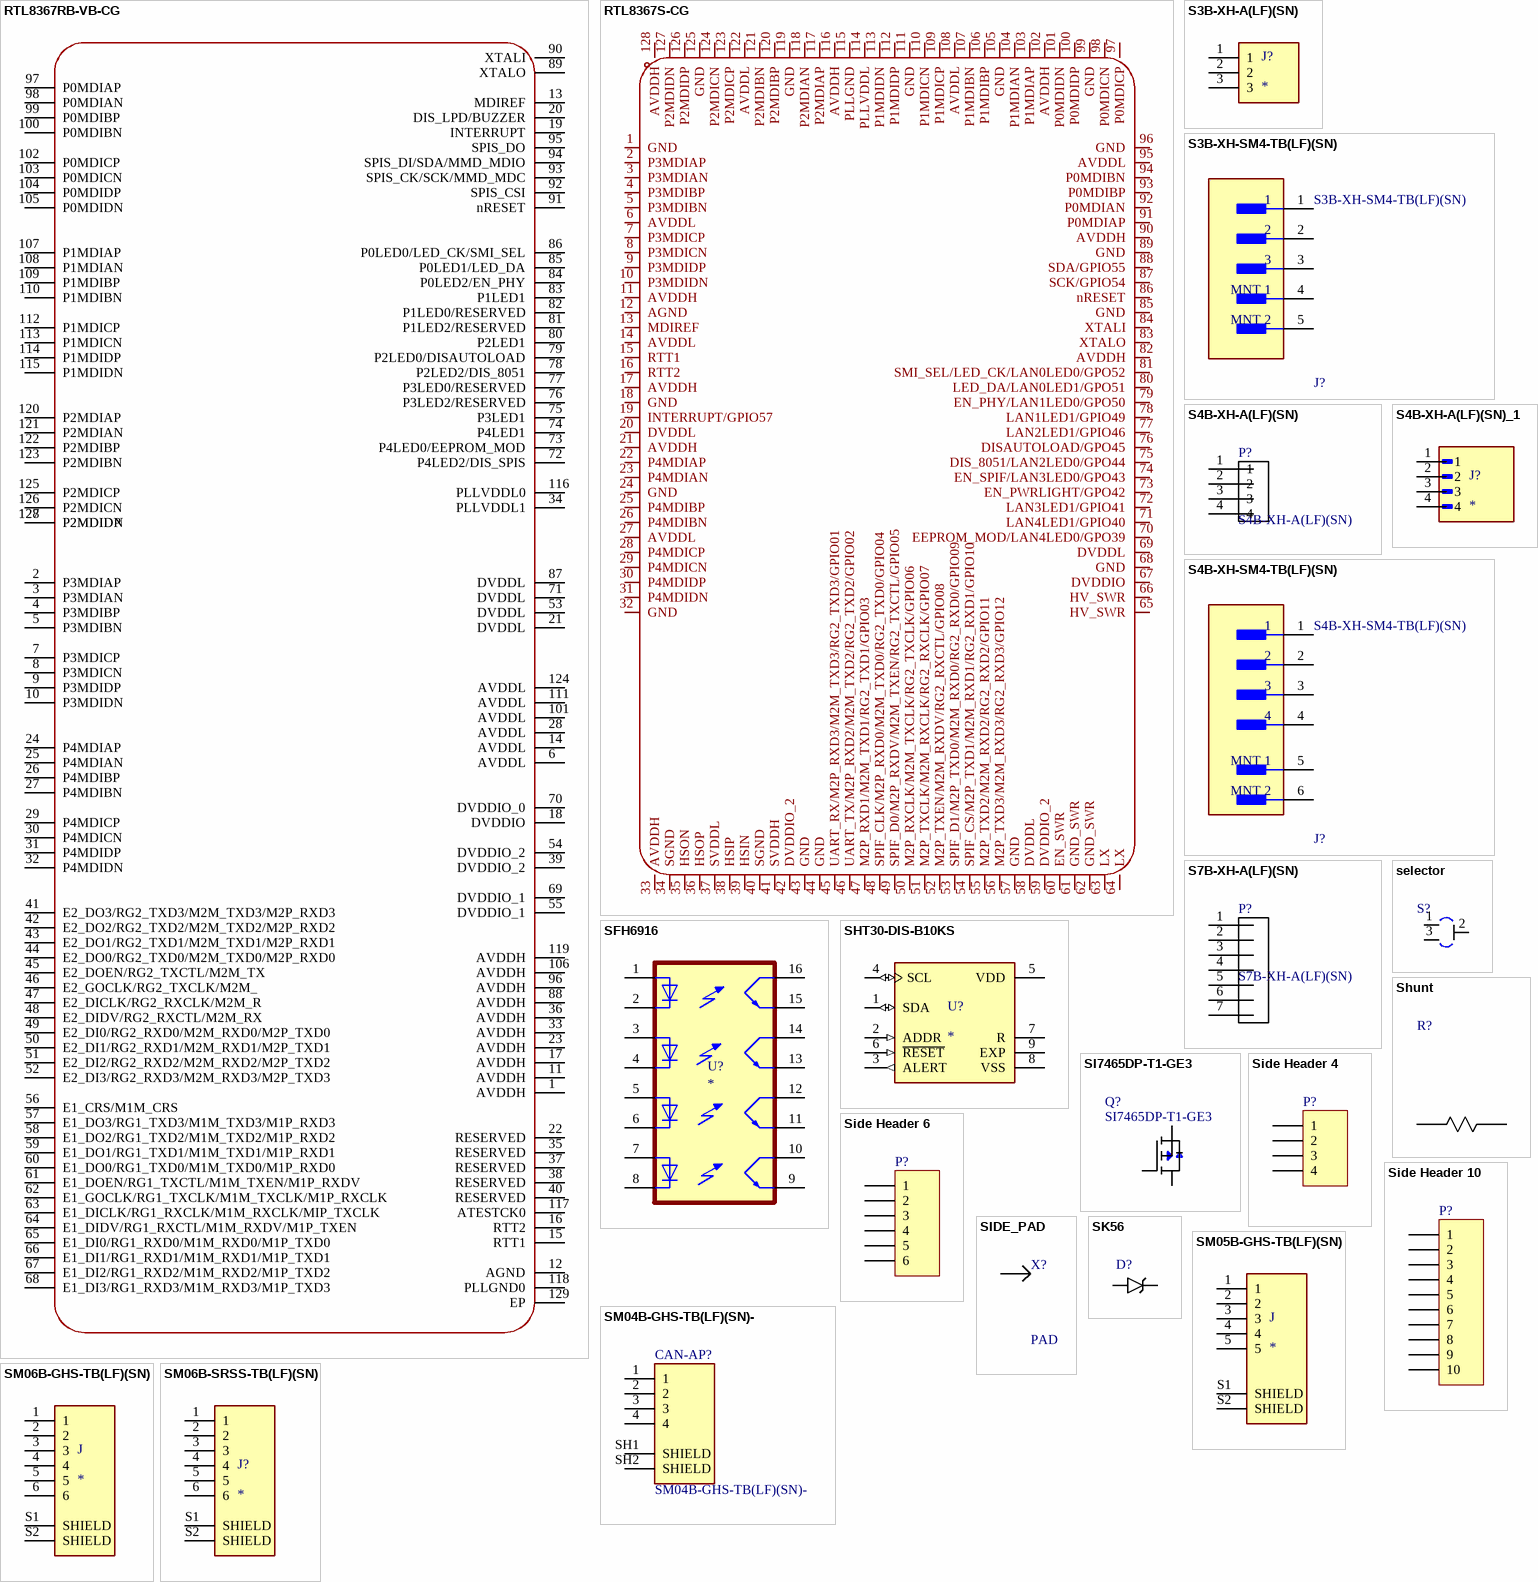
[diagram p14: symbols RTL8367RB-VB-CG to SM06B-SRSS-TB(LF)(SN)]